# Altium schematic symbol library Sensor_Temperature.SchLib: 119 symbols (part 2 of 2)
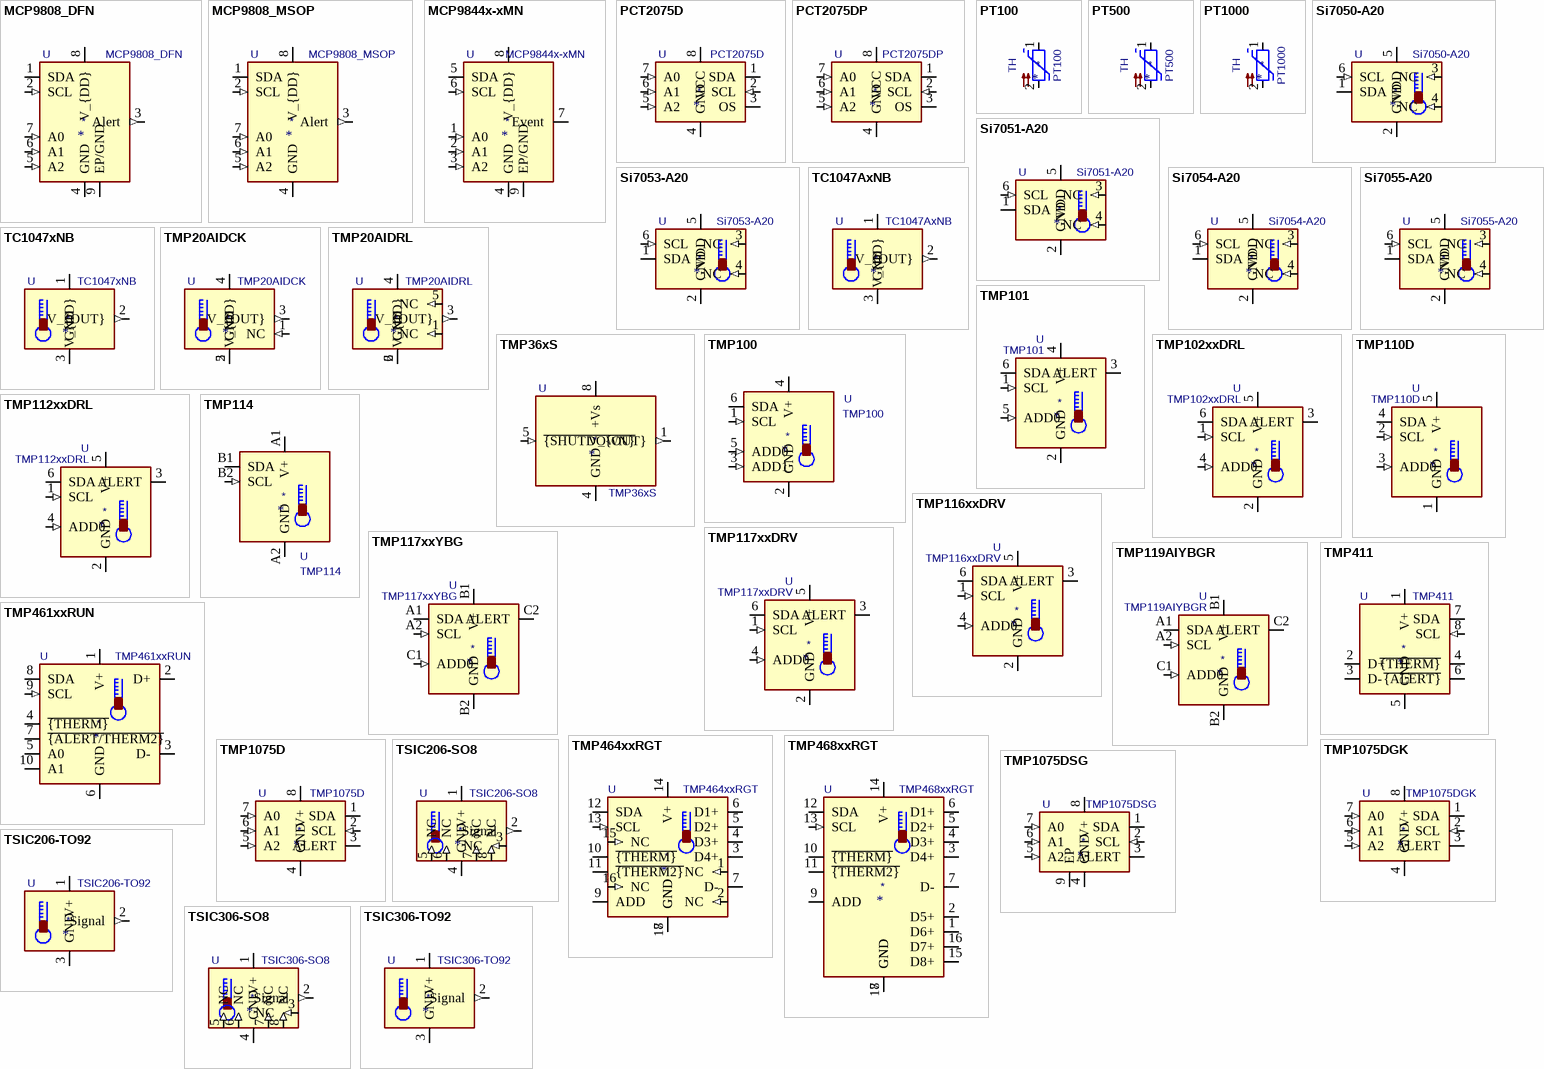
[diagram p3: symbols MCP9808_DFN to TSIC306-TO92]

## TMP110D
designator *  value TMP110D  Reference: U
Digital Temperature Sensor with I2C/SMBus Interface, +/-1° C accurate, address pin, X2SON; ki_keywords: digital temperature sensor i2c smbus; ki_fp_filters: Texas?X2SON*0.8x0.8mm*P0.48mm*; Footprint: Package_SON:Texas_X2SON-5_0.8x0.8mm_P0.48mm; Datasheet: https://www.ti.com/lit/ds/symlink/tmp110.pdf; Description_: Digital Temperature Sensor with I2C/SMBus Interface, +/-1° C accurate, address pin, X2SON
pins: 1 GND (power), 2 SCL (in), 3 ADD0 (in), 4 SDA (io), 5 V+ (power)

## TMP112xxDRL
designator *  value TMP112xxDRL  Reference: U
Digital Temperature Sensor with I2C/SMBus/Two-wire Interface, 12 bits, ±1°C, one-shot conversion, alert, nist traceable, SOT-563; ki_keywords: digital temperature sensor i2c smbus two-wire nist; ki_fp_filters: SOT?563*; Footprint: Package_TO_SOT_SMD:SOT-563; Datasheet: https://www.ti.com/lit/ds/symlink/tmp112.pdf; Description_: Digital Temperature Sensor with I2C/SMBus/Two-wire Interface, 12 bits, ±1°C, one-shot conversion, alert, nist traceable, SOT-563
pins: 1 SCL (in), 2 GND (power), 3 ALERT (oc), 4 ADD0 (in), 5 V+ (power), 6 SDA (io)

## TMP114
designator *  value TMP114  Reference: U
Ultra-Small 0.76x0.76x0.15mm, 1.08..1.98V Supply, High Accuracy I2C 16-bit Digital Temperature Sensor, BGA-4; ki_keywords: thermometer monitor i2c texas; ki_fp_filters: *Texas*PicoStar*; Footprint: Package_BGA:Texas_PicoStar_BGA-4_0.758x0.758mm_Layout2x2_P0.4mm; Datasheet: https://www.ti.com/lit/ds/symlink/tmp114.pdf; Description_: Ultra-Small 0.76x0.76x0.15mm, 1.08..1.98V Supply, High Accuracy I2C 16-bit Digital Temperature Sensor, BGA-4
pins: A1 V+ (power), A2 GND (power), B1 SDA (io), B2 SCL (in)

## TMP116xxDRV
designator *  value TMP116xxDRV  Reference: U
Digital Temperature Sensor with I2C/SMBus Interface, 16 bits, ±0.3°C,  one-shot conversion, alert, nist traceable, EEPROM, WSON; ki_keywords: digital temperature sensor i2c smbus nist; ki_fp_filters: WSON*1EP?2x2mm?P0.65mm?EP1x1.6mm*; Footprint: Package_SON:WSON-6-1EP_2x2mm_P0.65mm_EP1x1.6mm; Datasheet: https://www.ti.com/lit/ds/symlink/tmp116.pdf; Description_: Digital Temperature Sensor with I2C/SMBus Interface, 16 bits, ±0.3°C,  one-shot conversion, alert, nist traceable, EEPROM, WSON
pins: 1 SCL (in), 2 GND (power), 3 ALERT (oc), 4 ADD0 (in), 5 V+ (power), 6 SDA (io)

## TMP117xxDRV
designator *  value TMP117xxDRV  Reference: U
Digital Temperature Sensor with I2C/SMBus Interface, 16 bits, ±0.3°C, one-shot conversion, alert, nist traceable, EEPROM, WSON; ki_keywords: digital temperature sensor i2c smbus nist; ki_fp_filters: WSON*1EP?2x2mm?P0.65mm?EP1x1.6mm*; Footprint: Package_SON:WSON-6-1EP_2x2mm_P0.65mm_EP1x1.6mm; Datasheet: https://www.ti.com/lit/ds/symlink/tmp117.pdf; Description_: Digital Temperature Sensor with I2C/SMBus Interface, 16 bits, ±0.3°C, one-shot conversion, alert, nist traceable, EEPROM, WSON
pins: 1 SCL (in), 2 GND (power), 3 ALERT (oc), 4 ADD0 (in), 5 V+ (power), 6 SDA (io)

## TMP117xxYBG
designator *  value TMP117xxYBG  Reference: U
Digital Temperature Sensor with I2C/SMBus Interface, 16 bits, ±0.3°C, one-shot conversion, alert, nist traceable, EEPROM, DSBGA; ki_keywords: digital temperature sensor i2c smbus; ki_fp_filters: Texas?DSBGA?6?0.95x1.488mm?Layout2x3?P0.4mm*; Footprint: Package_BGA:Texas_DSBGA-6_0.95x1.488mm_Layout2x3_P0.4mm; Datasheet: https://www.ti.com/lit/ds/symlink/tmp117.pdf; Description_: Digital Temperature Sensor with I2C/SMBus Interface, 16 bits, ±0.3°C, one-shot conversion, alert, nist traceable, EEPROM, DSBGA
pins: A1 SDA (io), A2 SCL (in), B1 V+ (power), B2 GND (power), C1 ADD0 (in), C2 ALERT (oc)

## TMP119AIYBGR
designator *  value TMP119AIYBGR  Reference: U
Ultra-High Accuracy, Low-Power, Digital Temperature Sensor With SMBus and I2C-Compatible Interface, DSBGA-6; ki_keywords: digital temperature sensor i2c smbus; ki_fp_filters: Texas?DSBGA?6?0.95x1.488mm?Layout2x3?P0.4mm*; Footprint: Package_BGA:Texas_DSBGA-6_0.95x1.488mm_Layout2x3_P0.4mm; Datasheet: https://www.ti.com/lit/ds/symlink/tmp119.pdf; Description_: Ultra-High Accuracy, Low-Power, Digital Temperature Sensor With SMBus and I2C-Compatible Interface, DSBGA-6
pins: A1 SDA (io), A2 SCL (in), B1 V+ (power), B2 GND (power), C1 ADD0 (in), C2 ALERT (oc)

## TMP411
designator *  value TMP411  Reference: U
- Remote and Local TEMPERATURE SENSOR; ki_keywords: Temperature sensor remote local i2c; ki_fp_filters: SOIC*3.9x4.9mm*P1.27mm* VSSOP*3x3mm*P0.65mm*; Datasheet: http://www.ti.com.cn/cn/lit/ds/symlink/tmp411.pdf; Description_: - Remote and Local TEMPERATURE SENSOR
pins: 1 V+ (power), 2 D+, 3 D-, 4 ~{{THERM}} (oc), 5 GND (power), 6 ~{{ALERT}} (oc), 7 SDA (io), 8 SCL (in)

## TMP461xxRUN
designator *  value TMP461xxRUN  Reference: U
Texas Instruments High-Accuracy Remote and Local Temperature Sensor with Pin-Programmable Bus Address, WQFN-10; ki_keywords: Temperature sensor remote I2C TI; ki_fp_filters: Texas*RUN0010A*; Footprint: Package_DFN_QFN:Texas_RUN0010A_WQFN-10_2x2mm_P0.5mm; Datasheet: https://www.ti.com/lit/ds/symlink/tmp461.pdf; Description_: Texas Instruments High-Accuracy Remote and Local Temperature Sensor with Pin-Programmable Bus Address, WQFN-10
pins: 1 V+ (power), 2 D+, 3 D-, 4 ~{{THERM}} (oc), 5 A0, 6 GND (power), 7 ~{{ALERT/THERM2}} (oc), 8 SDA (io), 9 SCL (in), 10 A1

## TMP464xxRGT
designator *  value TMP464xxRGT  Reference: U
Texas Instruments 5-Channel (4-Remote and 1-Local), High-Accuracy Temperature Sensor with Pin-Programmable Bus Address, VQFN-16; ki_keywords: Temperature sensor remote I2C TI; ki_fp_filters: *QFN*1EP*3x3mm*P0.5mm*; Footprint: Package_DFN_QFN:VQFN-16-1EP_3x3mm_P0.5mm_EP1.68x1.68mm; Datasheet: https://www.ti.com/lit/ds/symlink/tmp464.pdf; Description_: Texas Instruments 5-Channel (4-Remote and 1-Local), High-Accuracy Temperature Sensor with Pin-Programmable Bus Address, VQFN-16
pins: 1 NC (in), 2 NC (in), 3 D4+, 4 D3+, 5 D2+, 6 D1+, 7 D-, 8 GND (power), 9 ADD, 10 ~{{THERM}} (oc), 11 ~{{THERM2}} (oc), 12 SDA (io), 13 SCL (in), 14 V+ (power), 15 NC (in), 16 NC (in), 17 GND

## TMP468xxRGT
designator *  value TMP468xxRGT  Reference: U
Texas Instruments 9-Channel (8-Remote and 1-Local), High-Accuracy Temperature Sensor with Pin-Programmable Bus Address, VQFN-16; ki_keywords: Temperature sensor remote I2C TI; ki_fp_filters: *QFN*1EP*3x3mm*P0.5mm*; Footprint: Package_DFN_QFN:VQFN-16-1EP_3x3mm_P0.5mm_EP1.68x1.68mm; Datasheet: https://www.ti.com/lit/ds/symlink/tmp468.pdf; Description_: Texas Instruments 9-Channel (8-Remote and 1-Local), High-Accuracy Temperature Sensor with Pin-Programmable Bus Address, VQFN-16
pins: 1 D6+, 2 D5+, 3 D4+, 4 D3+, 5 D2+, 6 D1+, 7 D-, 8 GND (power), 9 ADD, 10 ~{{THERM}} (oc), 11 ~{{THERM2}} (oc), 12 SDA (io), 13 SCL (in), 14 V+ (power), 15 D8+, 16 D7+, 17 GND

## TMP1075D
designator *  value TMP1075D  Reference: U
I2C-bus digital temperature sensor and thermal watchdog, SO-8; ki_keywords: temperature sensor I2C single channel; ki_fp_filters: SO*3.9x4.9mm*P1.27mm*; Footprint: Package_SO:SO-8_3.9x4.9mm_P1.27mm; Datasheet: https://www.ti.com/lit/gpn/tmp1075; Description_: I2C-bus digital temperature sensor and thermal watchdog, SO-8
pins: 1 SDA (io), 2 SCL (in), 3 ALERT (oc), 4 GND (power), 5 A2 (in), 6 A1 (in), 7 A0 (in), 8 V+ (power)

## TMP1075DGK
designator *  value TMP1075DGK  Reference: U
I2C-bus digital temperature sensor and thermal watchdog, VSSOP-8; ki_keywords: temperature sensor I2C single channel; ki_fp_filters: VSSOP*3x3mm*P0.65mm*; Footprint: Package_SO:VSSOP-8_3x3mm_P0.65mm; Datasheet: https://www.ti.com/lit/gpn/tmp1075; Description_: I2C-bus digital temperature sensor and thermal watchdog, VSSOP-8
pins: 1 SDA (io), 2 SCL (in), 3 ALERT (oc), 4 GND (power), 5 A2 (in), 6 A1 (in), 7 A0 (in), 8 V+ (power)

## TMP1075DSG
designator *  value TMP1075DSG  Reference: U
I2C-bus digital temperature sensor and thermal watchdog, WSON-8; ki_keywords: temperature sensor I2C single channel; ki_fp_filters: WSON*1EP*2x2mm*P0.5mm*; Footprint: Package_SON:WSON-8-1EP_2x2mm_P0.5mm_EP0.9x1.6mm_ThermalVias; Datasheet: https://www.ti.com/lit/gpn/tmp1075; Description_: I2C-bus digital temperature sensor and thermal watchdog, WSON-8
pins: 1 SDA (io), 2 SCL (in), 3 ALERT (oc), 4 GND (power), 5 A2 (in), 6 A1 (in), 7 A0 (in), 8 V+ (power), 9 EP

## TSIC206-SO8
designator *  value TSIC206-SO8  Reference: U
Digital temperature sensor, range -50 ... +150 °C, 0.5 K accuracy, SO-8; ki_keywords: temperature digital; ki_fp_filters: SOIC*3.9x4.9mm*P1.27mm*; Footprint: Package_SO:SOIC-8_3.9x4.9mm_P1.27mm; Datasheet: https://shop.bb-sensors.com/out/media/Datasheet_Digital_Semiconductor_temperatur_sensor_TSIC.pdf; Description_: Digital temperature sensor, range -50 ... +150 °C, 0.5 K accuracy, SO-8
pins: 1 V+ (power), 2 Signal (out), 3 NC (in), 4 GND (power), 5 NC (in), 6 NC (in), 7 NC (in), 8 NC (in)

## TSIC206-TO92
designator *  value TSIC206-TO92  Reference: U
Digital temperature sensor, range -50 ... +150 °C, 0.5 K accuracy, TO-92; ki_keywords: temperature digital; ki_fp_filters: TO?92*; Footprint: Package_TO_SOT_THT:TO-92_Inline; Datasheet: https://shop.bb-sensors.com/out/media/Datasheet_Digital_Semiconductor_temperatur_sensor_TSIC.pdf; Description_: Digital temperature sensor, range -50 ... +150 °C, 0.5 K accuracy, TO-92
pins: 1 V+ (power), 2 Signal (out), 3 GND (power)

## TSIC306-SO8
designator *  value TSIC306-SO8  Reference: U
Digital temperature sensor, range -50 ... +150 °C, 0.3 K accuracy, SO-8; ki_keywords: temperature digital; ki_fp_filters: SOIC*3.9x4.9mm*P1.27mm*; Footprint: Package_SO:SOIC-8_3.9x4.9mm_P1.27mm; Datasheet: https://shop.bb-sensors.com/out/media/Datasheet_Digital_Semiconductor_temperatur_sensor_TSIC.pdf; Description_: Digital temperature sensor, range -50 ... +150 °C, 0.3 K accuracy, SO-8
pins: 1 V+ (power), 2 Signal (out), 3 NC (in), 4 GND (power), 5 NC (in), 6 NC (in), 7 NC (in), 8 NC (in)

## TSIC306-TO92
designator *  value TSIC306-TO92  Reference: U
Digital temperature sensor, range -50 ... +150 °C, 0.3 K accuracy, TO-92; ki_keywords: temperature digital; ki_fp_filters: TO?92*; Footprint: Package_TO_SOT_THT:TO-92_Inline; Datasheet: https://shop.bb-sensors.com/out/media/Datasheet_Digital_Semiconductor_temperatur_sensor_TSIC.pdf; Description_: Digital temperature sensor, range -50 ... +150 °C, 0.3 K accuracy, TO-92
pins: 1 V+ (power), 2 Signal (out), 3 GND (power)